# Altium schematic symbol library Go With The Wind.SCHLIB: 32 symbols
Pins are listed as number, name and electrical type; pins without a type are passive.

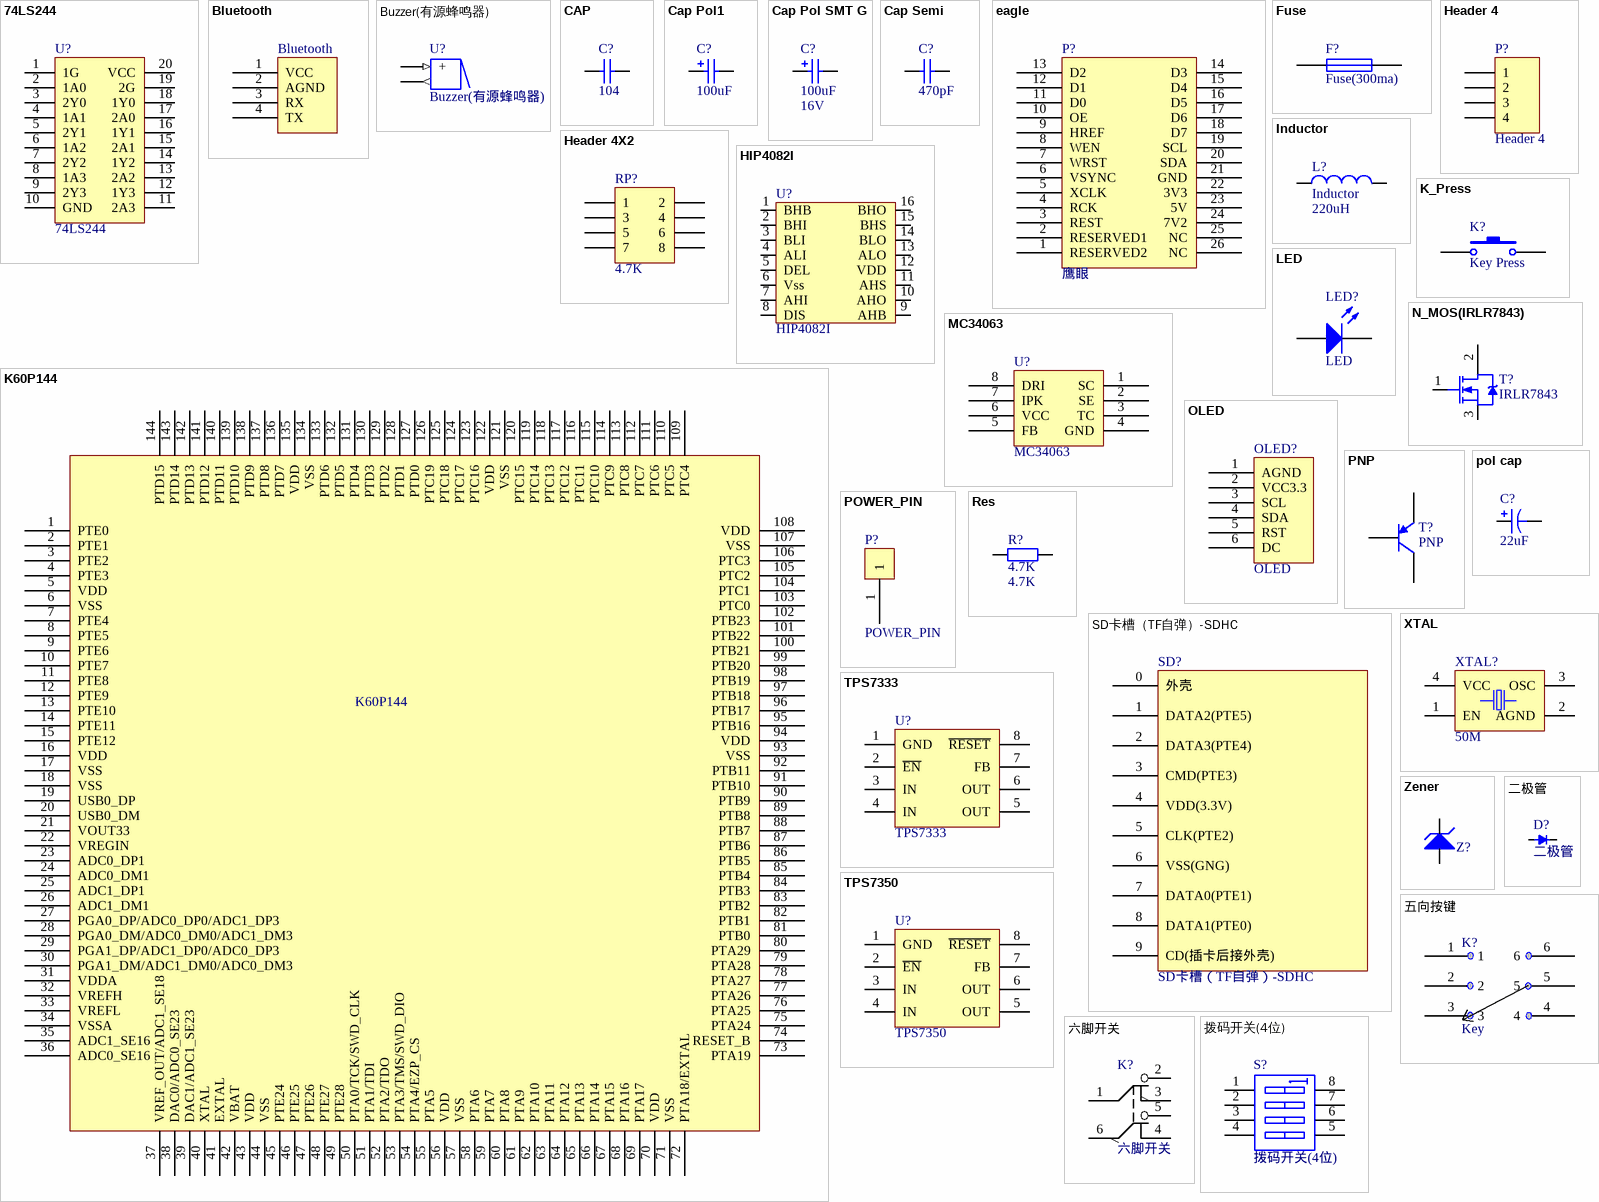
[diagram p0: symbols 74LS244 to 拨码开关(4位)]

## 74LS244
designator U?
footprint 74LS244D (SOP-20)
pins: 1 1G, 2 1A0, 3 2Y0, 4 1A1, 5 2Y1, 6 1A2, 7 2Y2, 8 1A3, 9 2Y3, 10 GND, 11 2A3, 12 1Y3, 13 2A2, 14 1Y2, 15 2A1, 16 1Y1, 17 2A0, 18 1Y0, 19 2G, 20 VCC

## Bluetooth
designator Bluetooth?  (value not drawn)
footprint HDR4X1_A (Connector; Header; 4 Position)
footprint S0P4
pins: 1 VCC, 2 AGND, 3 RX, 4 TX

## Buzzer(有源蜂鸣器)
designator U?
footprint Buzzer
pins: 1 + (in), 2 (out)

## CAP
designator C?, comment 104
footprint 0805-0C
footprint 0805-1C
footprint Model Name (Footprint not found)
pins: 1, 2

## Cap Pol1
designator C?  value 100uF  (hidden comment: Cap Pol1)
Polarized Capacitor (Radial); Published: 8-Jun-2000; LatestRevisionDate: 17-Jul-2002; LatestRevisionNote: Re-released for DXP Platform.; PackageReference: RB7.6-15; Publisher: Altium Limited; PackageDescription: Polarized Capacitor (Radial); 2 Leads
simulation model CAP (Capacitor)
signal-integrity model Cap Pol
footprint 1206C
footprint 胆电容 - duplicate
pins: 1, 2
1 alternate drawing of the same symbol

## Cap Pol SMT G
designator C?  value 100uF  Voltage: 16V  (hidden comment: Cap Pol SMT G)
Polarized Capacitor (Radial); Published: 8-Jun-2000; Revision: July-2002: Re-released for DXP Platform.; Publisher: Altium Limited
3D model SL-G (PCB3D Model)
footprint ED6.3
pins: 1, 2

## Cap Semi
designator C?  value 470pF  (hidden comment: Cap Semi)
Capacitor (Semiconductor SIM Model); Published: 8-Jun-2000; LatestRevisionDate: 29-May-2009; LatestRevisionNote: IPC-7351 Footprint Added.; PackageReference: C1206; Publisher: Altium Limited; PackageDescription: Chip Capacitor
footprint 0805-0C
footprint 0402 (Chip Capacitor, Body 1.0x0.5mm, IPC High Density)
footprint C2512 (Chip Capacitor, Body 2.54x1.27mm, IPC High Density)
footprint 1608[0603] (Chip Capacitor, Body 1.6x0.8mm, IPC High Density)
footprint C1210 (Chip Capacitor, Body 3.2x2.5mm, IPC High Density)
simulation model CAP (Semiconductor Capacitor)
signal-integrity model Cap Semi
pins: 1, 2

## eagle
designator P?, comment 鹰眼
footprint FFC/SM0.5-2H24
pins: 1 RESERVED2, 2 RESERVED1, 3 REST, 4 RCK, 5 XCLK, 6 VSYNC, 7 WRST, 8 WEN, 9 HREF, 10 OE, 11 D0, 12 D1, 13 D2, 14 D3, 15 D4, 16 D5, 17 D6, 18 D7, 19 SCL, 20 SDA, 21 GND, 22 3V3, 23 5V, 24 7V2, 25 NC, 26 NC

## Fuse
designator F?, comment Fuse(300ma)
Fuse
footprint 1206R
pins: 1, 2

## Header 4
designator P?
Header, 4-Pin; LatestRevisionDate: 17-Jul-2002; LatestRevisionNote: Re-released for DXP Platform.; Publisher: Altium Limited
footprint HDR1X4 (Connector; Header; 4 Position)
signal-integrity model Connector
footprint WAFER4
pins: 1, 2, 3, 4

## Header 4X2
designator RP?, comment 4.7K
Header, 4-Pin, Dual row; LatestRevisionDate: 17-Jul-2002; LatestRevisionNote: Re-released for DXP Platform.; Publisher: Altium Limited
footprint RA_8
signal-integrity model Connector
pins: 1, 2, 3, 4, 5, 6, 7, 8

## HIP4082I
designator U?
footprint HIP4082I
pins: 1 BHB, 2 BHI, 3 BLI, 4 ALI, 5 DEL, 6 Vss, 7 AHI, 8 DIS, 9 AHB, 10 AHO, 11 AHS, 12 VDD, 13 ALO, 14 BLO, 15 BHS, 16 BHO

## Inductor
designator L?  value 220uH
footprint 电感（220uh）
pins: 1, 2

## K60P144
designator U?
footprint LQFP144
pins: 1 PTE0, 2 PTE1, 3 PTE2, 4 PTE3, 5 VDD, 6 VSS, 7 PTE4, 8 PTE5, 9 PTE6, 10 PTE7, 11 PTE8, 12 PTE9, 13 PTE10, 14 PTE11, 15 PTE12, 16 VDD, 17 VSS, 18 VSS, 19 USB0_DP, 20 USB0_DM, 21 VOUT33, 22 VREGIN, 23 ADC0_DP1, 24 ADC0_DM1, 25 ADC1_DP1, 26 ADC1_DM1, 27 PGA0_DP/ADC0_DP0/ADC1_DP3, 28 PGA0_DM/ADC0_DM0/ADC1_DM3, 29 PGA1_DP/ADC1_DP0/ADC0_DP3, 30 PGA1_DM/ADC1_DM0/ADC0_DM3, 31 VDDA, 32 VREFH, 33 VREFL, 34 VSSA, 35 ADC1_SE16, 36 ADC0_SE16, 37 VREF_OUT/ADC1_SE18, 38 DAC0/ADC0_SE23, 39 DAC1/ADC1_SE23, 40 XTAL, 41 EXTAL, 42 VBAT, 43 VDD, 44 VSS, 45 PTE24, 46 PTE25, 47 PTE26, 48 PTE27, 49 PTE28, 50 PTA0/TCK/SWD_CLK, 51 PTA1/TDI, 52 PTA2/TDO, 53 PTA3/TMS/SWD_DIO, 54 PTA4/EZP_CS, 55 PTA5, 56 VDD, 57 VSS, 58 PTA6, 59 PTA7, 60 PTA8, 61 PTA9, 62 PTA10, 63 PTA11, 64 PTA12, 65 PTA13, 66 PTA14, 67 PTA15, 68 PTA16, 69 PTA17, 70 VDD, 71 VSS, 72 PTA18/EXTAL, 73 PTA19, 74 RESET_B, 75 PTA24, 76 PTA25, 77 PTA26, 78 PTA27, 79 PTA28, 80 PTA29, 81 PTB0, 82 PTB1, 83 PTB2, 84 PTB3, 85 PTB4, 86 PTB5, 87 PTB6, 88 PTB7, 89 PTB8, 90 PTB9, 91 PTB10, 92 PTB11, 93 VSS, 94 VDD, 95 PTB16, 96 PTB17, 97 PTB18, 98 PTB19, 99 PTB20, 100 PTB21, 101 PTB22, 102 PTB23, 103 PTC0, 104 PTC1, 105 PTC2, 106 PTC3, 107 VSS, 108 VDD, 109 PTC4, 110 PTC5, 111 PTC6, 112 PTC7, 113 PTC8, 114 PTC9, 115 PTC10, 116 PTC11, 117 PTC12, 118 PTC13, 119 PTC14, 120 PTC15, 121 VSS, 122 VDD, 123 PTC16, 124 PTC17, 125 PTC18, 126 PTC19, 127 PTD0, 128 PTD1, 129 PTD2, 130 PTD3, 131 PTD4, 132 PTD5, 133 PTD6, 134 VSS, 135 VDD, 136 PTD7, 137 PTD8, 138 PTD9, 139 PTD10, 140 PTD11, 141 PTD12, 142 PTD13, 143 PTD14, 144 PTD15

## K_Press
designator K?, comment Key Press
贴片按键
footprint K_Press
pins: 1, 2

## LED
designator LED?
发光二极管
footprint LED(0805)
pins: 1 A, 2 K

## MC34063
designator U?
footprint MA34063 (12V升压)
pins: 1 SC, 2 SE, 3 TC, 4 GND, 5 FB, 6 VCC, 7 IPK, 8 DRI

## N_MOS(IRLR7843)
designator T?, comment IRLR7843
footprint IRLR7843(MOS)
pins: 1 G, 2 D, 3 S

## OLED
designator OLED?
footprint S0P6
pins: 1 AGND, 2 VCC3.3, 3 SCL, 4 SDA, 5 RST, 6 DC

## PNP
designator T?
footprint PNP
pins: 1 C, 2 B, 3 E

## pol cap
designator C?  value 22uF  (hidden comment: pol cap)
通用有极电容
footprint pol cap(10uF)
footprint Pol Cap(220uF)
pins: 1, 2

## POWER_PIN
designator P?
footprint POWER_PIN
pins: 1

## Res
designator R?, comment 4.7K
通用电阻; Value: 4.7K
footprint 0805
footprint 0603
pins: 1, 2

## SD卡槽（TF自弹）-SDHC
designator SD?
footprint SD卡槽
pins: 0 外壳, 1 DATA2(PTE5), 2 DATA3(PTE4), 3 CMD(PTE3), 4 VDD(3.3V), 5 CLK(PTE2), 6 VSS(GNG), 7 DATA0(PTE1), 8 DATA1(PTE0), 9 CD(插卡后接外壳)

## TPS7333
designator U?
稳压元件（3.3V）
footprint SOIC-8(TPS7333/50)
pins: 1 GND (power), 2 ~{EN} (power), 3 IN (power), 4 IN (power), 5 OUT (power), 6 OUT (power), 7 FB (power), 8 ~{RESET} (power)

## TPS7350
designator U?
稳压元件（5V）
footprint SOIC-8(TPS7333/50)
pins: 1 GND (power), 2 ~{EN} (power), 3 IN (power), 4 IN (power), 5 OUT (power), 6 OUT (power), 7 FB (power), 8 ~{RESET} (power)

## XTAL
designator XTAL?, comment 50M
footprint XTAL-3225
pins: 1 EN, 2 AGND, 3 OSC, 4 VCC (power)

## Zener
designator Z?  (value not drawn)
footprint 0805-0C
pins: 1 A, 2 K

## 二极管
designator D?
footprint 二极管
pins: 1 +, 2 -

## 五向按键
designator K?, comment Key
footprint PCBComponent_1
pins: 1, 2, 3, 4, 5, 6

## 六脚开关
designator K?
footprint 六脚开关
pins: 1 (power), 2 (power), 3 (power), 4 (power), 5 (power), 6 (power)

## 拨码开关(4位)
designator S?
拨码开关（4位）
footprint Switch_4P
pins: 1 A1, 2 A2, 3 A3, 4 A4, 5 B4, 6 B3, 7 B2, 8 B1